# Altium schematic symbol library INFINITY.Cavity.SchLib: 7 symbols
Pins are listed as number, name and electrical type; pins without a type are passive.

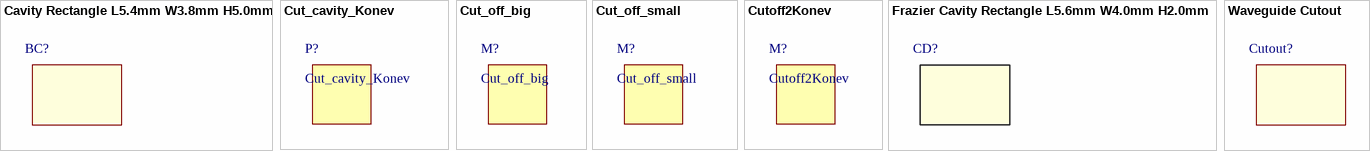
[diagram p0: symbols Cavity Rectangle L5.4mm W3.8mm H5.0mm to Waveguide Cutout]

## Cavity Rectangle L5.4mm W3.8mm H5.0mm
designator BC?  (value not drawn)

## Cut_cavity_Konev
designator P?
footprint Cut_cavity_Konev

## Cut_off_big
designator M?
footprint Cut_off_big

## Cut_off_small
designator M?
footprint Cut_off_small

## Cutoff2Konev
designator M?
footprint Cutoff2Konev

## Frazier Cavity Rectangle L5.6mm W4.0mm H2.0mm
designator CD?  (value not drawn)

## Waveguide Cutout
designator Cutout?  (value not drawn)
footprint Waveguide Cutout